# Altium footprint library CQFP_Sq_63P_Side_L.PcbLib: 12 footprints
Each footprint in its own frame and in the unit in brackets; x right, y up, seen from the top. Pads: shape width x height; smd on the part's side, far side on the other; paste and mask are expansions set on the pad; w line width, h text height; cw(c..) or ccw(c..) is an arc to the next point about the centre after c.
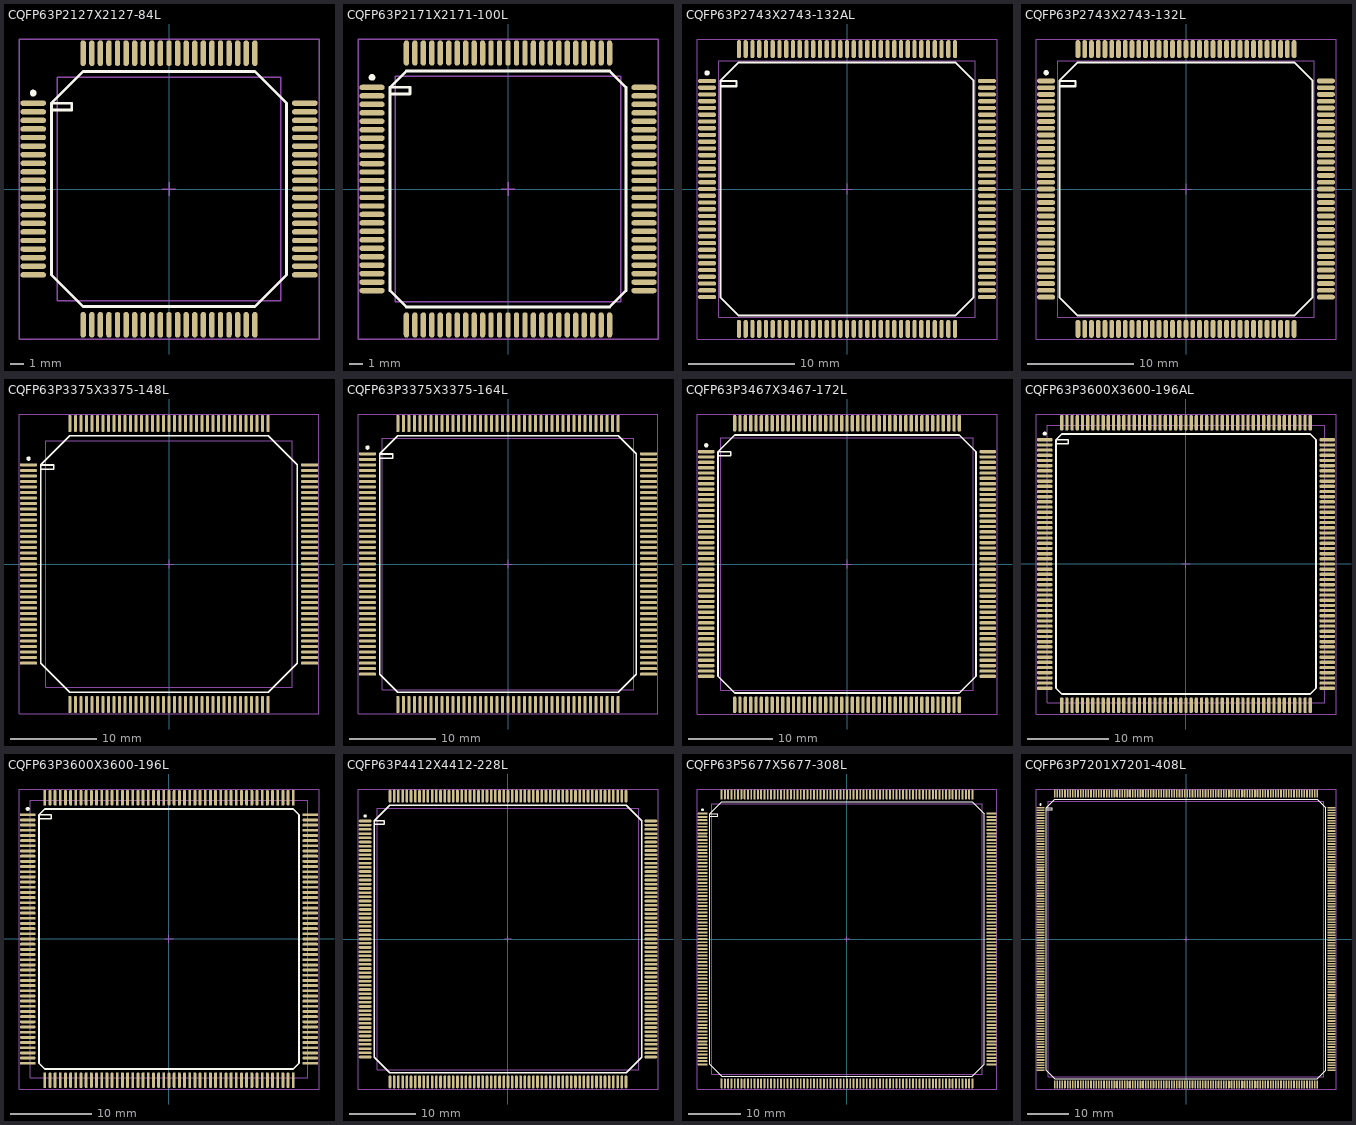
[diagram p0: the footprints below, top view; thin cyan lines are the x and y axes]

## CQFP63P2127X2127-84L [mm] "CQFP, 84-Leads, Body 16.5x16.5mm; Pitch 0.635mm, Gullwing Leadform, IPC High Density"
height 2.4
pads (84):
  oval 1.9x0.4 smd: 1(-10.05,6.35) 2(-10.05,5.715) 3(-10.05,5.08) 4(-10.05,4.445) 5(-10.05,3.81) 6(-10.05,3.175) 7(-10.05,2.54) 8(-10.05,1.905) 9(-10.05,1.27) 10(-10.05,0.635) 11(-10.05,0) 12(-10.05,-0.635) 13(-10.05,-1.27) 14(-10.05,-1.905) 15(-10.05,-2.54) 16(-10.05,-3.175) 17(-10.05,-3.81) 18(-10.05,-4.445) 19(-10.05,-5.08) 20(-10.05,-5.715) 21(-10.05,-6.35) 43(10.05,-6.35) 44(10.05,-5.715) 45(10.05,-5.08) 46(10.05,-4.445) 47(10.05,-3.81) 48(10.05,-3.175) 49(10.05,-2.54) 50(10.05,-1.905) 51(10.05,-1.27) 52(10.05,-0.635) 53(10.05,0) 54(10.05,0.635) 55(10.05,1.27) 56(10.05,1.905) 57(10.05,2.54) 58(10.05,3.175) 59(10.05,3.81) 60(10.05,4.445) 61(10.05,5.08) 62(10.05,5.715) 63(10.05,6.35)
  oval 0.4x1.9 smd: 22(-6.35,-10.05) 23(-5.715,-10.05) 24(-5.08,-10.05) 25(-4.445,-10.05) 26(-3.81,-10.05) 27(-3.175,-10.05) 28(-2.54,-10.05) 29(-1.905,-10.05) 30(-1.27,-10.05) 31(-0.635,-10.05) 32(0,-10.05) 33(0.635,-10.05) 34(1.27,-10.05) 35(1.905,-10.05) 36(2.54,-10.05) 37(3.175,-10.05) 38(3.81,-10.05) 39(4.445,-10.05) 40(5.08,-10.05) 41(5.715,-10.05) 42(6.35,-10.05) 64(6.35,10.05) 65(5.715,10.05) 66(5.08,10.05) 67(4.445,10.05) 68(3.81,10.05) 69(3.175,10.05) 70(2.54,10.05) 71(1.905,10.05) 72(1.27,10.05) 73(0.635,10.05) 74(0,10.05) 75(-0.635,10.05) 76(-1.27,10.05) 77(-1.905,10.05) 78(-2.54,10.05) 79(-3.175,10.05) 80(-3.81,10.05) 81(-4.445,10.05) 82(-5.08,10.05) 83(-5.715,10.05) 84(-6.35,10.05)
Top Overlay:
  circle w0.25: c-10.05,7.1 r0.125
  lines w0.2: -8.7,5.85 -7.2,5.85 -7.2,6.35 -8.7,6.35 ; -8.7,6.35 -6.35,8.7 6.35,8.7 8.7,6.35 8.7,-6.35 6.35,-8.7 -6.35,-8.7 -8.7,-6.35 -8.7,6.35
Mechanical 13:
  lines w0.1: -8.255,-8.255 8.255,-8.255 8.255,8.255 -8.255,8.255 -8.255,-8.255
Mechanical 15:
  lines w0.1: -0.5,0 0.5,0 ; 0,-0.5 0,0.5 ; -11.1,-11.1 11.1,-11.1 11.1,11.1 -11.1,11.1 -11.1,-11.1
3D body: height 2.4, standoff 0, extent -8.255,-8.255 8.255,8.255

## CQFP63P2171X2171-100L [mm] "100-Pin Ceramic Quad Flat Pack 0.635 mm Pitch"
height 3.2
pads (100):
  oval 1.9x0.4 smd: 1(-10.2,7.62) 2(-10.2,6.985) 3(-10.2,6.35) 4(-10.2,5.715) 5(-10.2,5.08) 6(-10.2,4.445) 7(-10.2,3.81) 8(-10.2,3.175) 9(-10.2,2.54) 10(-10.2,1.905) 11(-10.2,1.27) 12(-10.2,0.635) 13(-10.2,0) 14(-10.2,-0.635) 15(-10.2,-1.27) 16(-10.2,-1.905) 17(-10.2,-2.54) 18(-10.2,-3.175) 19(-10.2,-3.81) 20(-10.2,-4.445) 21(-10.2,-5.08) 22(-10.2,-5.715) 23(-10.2,-6.35) 24(-10.2,-6.985) 25(-10.2,-7.62) 51(10.2,-7.62) 52(10.2,-6.985) 53(10.2,-6.35) 54(10.2,-5.715) 55(10.2,-5.08) 56(10.2,-4.445) 57(10.2,-3.81) 58(10.2,-3.175) 59(10.2,-2.54) 60(10.2,-1.905) 61(10.2,-1.27) 62(10.2,-0.635) 63(10.2,0) 64(10.2,0.635) 65(10.2,1.27) 66(10.2,1.905) 67(10.2,2.54) 68(10.2,3.175) 69(10.2,3.81) 70(10.2,4.445) 71(10.2,5.08) 72(10.2,5.715) 73(10.2,6.35) 74(10.2,6.985) 75(10.2,7.62)
  oval 0.4x1.9 smd: 26(-7.62,-10.2) 27(-6.985,-10.2) 28(-6.35,-10.2) 29(-5.715,-10.2) 30(-5.08,-10.2) 31(-4.445,-10.2) 32(-3.81,-10.2) 33(-3.175,-10.2) 34(-2.54,-10.2) 35(-1.905,-10.2) 36(-1.27,-10.2) 37(-0.635,-10.2) 38(0,-10.2) 39(0.635,-10.2) 40(1.27,-10.2) 41(1.905,-10.2) 42(2.54,-10.2) 43(3.175,-10.2) 44(3.81,-10.2) 45(4.445,-10.2) 46(5.08,-10.2) 47(5.715,-10.2) 48(6.35,-10.2) 49(6.985,-10.2) 50(7.62,-10.2) 76(7.62,10.2) 77(6.985,10.2) 78(6.35,10.2) 79(5.715,10.2) 80(5.08,10.2) 81(4.445,10.2) 82(3.81,10.2) 83(3.175,10.2) 84(2.54,10.2) 85(1.905,10.2) 86(1.27,10.2) 87(0.635,10.2) 88(0,10.2) 89(-0.635,10.2) 90(-1.27,10.2) 91(-1.905,10.2) 92(-2.54,10.2) 93(-3.175,10.2) 94(-3.81,10.2) 95(-4.445,10.2) 96(-5.08,10.2) 97(-5.715,10.2) 98(-6.35,10.2) 99(-6.985,10.2) 100(-7.62,10.2)
Top Overlay:
  circle w0.25: c-10.2,8.37 r0.125
  lines w0.2: -8.85,7.12 -7.35,7.12 -7.35,7.62 -8.85,7.62 ; -8.85,7.62 -7.62,8.85 7.62,8.85 8.85,7.62 8.85,-7.62 7.62,-8.85 -7.62,-8.85 -8.85,-7.62 -8.85,7.62
Mechanical 13:
  lines w0.1: -8.475,-8.475 8.475,-8.475 8.475,8.475 -8.475,8.475 -8.475,-8.475
Mechanical 15:
  lines w0.1: -0.5,0 0.5,0 ; 0,-0.5 0,0.5 ; -11.25,-11.25 11.25,-11.25 11.25,11.25 -11.25,11.25 -11.25,-11.25
3D body: height 3.2, standoff 0, extent -8.475,-8.475 8.475,8.475

## CQFP63P2743X2743-132AL [mm] "CQFP, 132-Leads, Body 24x24mm; Pitch 0.635mm, Gullwing Leadform, IPC High Density"
height 3
pads (132):
  oval 1.7x0.4 smd: 1(-13.15,10.16) 2(-13.15,9.525) 3(-13.15,8.89) 4(-13.15,8.255) 5(-13.15,7.62) 6(-13.15,6.985) 7(-13.15,6.35) 8(-13.15,5.715) 9(-13.15,5.08) 10(-13.15,4.445) 11(-13.15,3.81) 12(-13.15,3.175) 13(-13.15,2.54) 14(-13.15,1.905) 15(-13.15,1.27) 16(-13.15,0.635) 17(-13.15,0) 18(-13.15,-0.635) 19(-13.15,-1.27) 20(-13.15,-1.905) 21(-13.15,-2.54) 22(-13.15,-3.175) 23(-13.15,-3.81) 24(-13.15,-4.445) 25(-13.15,-5.08) 26(-13.15,-5.715) 27(-13.15,-6.35) 28(-13.15,-6.985) 29(-13.15,-7.62) 30(-13.15,-8.255) 31(-13.15,-8.89) 32(-13.15,-9.525) 33(-13.15,-10.16) 67(13.15,-10.16) 68(13.15,-9.525) 69(13.15,-8.89) 70(13.15,-8.255) 71(13.15,-7.62) 72(13.15,-6.985) 73(13.15,-6.35) 74(13.15,-5.715) 75(13.15,-5.08) 76(13.15,-4.445) 77(13.15,-3.81) 78(13.15,-3.175) 79(13.15,-2.54) 80(13.15,-1.905) 81(13.15,-1.27) 82(13.15,-0.635) 83(13.15,0) 84(13.15,0.635) 85(13.15,1.27) 86(13.15,1.905) 87(13.15,2.54) 88(13.15,3.175) 89(13.15,3.81) 90(13.15,4.445) 91(13.15,5.08) 92(13.15,5.715) 93(13.15,6.35) 94(13.15,6.985) 95(13.15,7.62) 96(13.15,8.255) 97(13.15,8.89) 98(13.15,9.525) 99(13.15,10.16)
  oval 0.4x1.7 smd: 34(-10.16,-13.15) 35(-9.525,-13.15) 36(-8.89,-13.15) 37(-8.255,-13.15) 38(-7.62,-13.15) 39(-6.985,-13.15) 40(-6.35,-13.15) 41(-5.715,-13.15) 42(-5.08,-13.15) 43(-4.445,-13.15) 44(-3.81,-13.15) 45(-3.175,-13.15) 46(-2.54,-13.15) 47(-1.905,-13.15) 48(-1.27,-13.15) 49(-0.635,-13.15) 50(0,-13.15) 51(0.635,-13.15) 52(1.27,-13.15) 53(1.905,-13.15) 54(2.54,-13.15) 55(3.175,-13.15) 56(3.81,-13.15) 57(4.445,-13.15) 58(5.08,-13.15) 59(5.715,-13.15) 60(6.35,-13.15) 61(6.985,-13.15) 62(7.62,-13.15) 63(8.255,-13.15) 64(8.89,-13.15) 65(9.525,-13.15) 66(10.16,-13.15) 100(10.16,13.15) 101(9.525,13.15) 102(8.89,13.15) 103(8.255,13.15) 104(7.62,13.15) 105(6.985,13.15) 106(6.35,13.15) 107(5.715,13.15) 108(5.08,13.15) 109(4.445,13.15) 110(3.81,13.15) 111(3.175,13.15) 112(2.54,13.15) 113(1.905,13.15) 114(1.27,13.15) 115(0.635,13.15) 116(0,13.15) 117(-0.635,13.15) 118(-1.27,13.15) 119(-1.905,13.15) 120(-2.54,13.15) 121(-3.175,13.15) 122(-3.81,13.15) 123(-4.445,13.15) 124(-5.08,13.15) 125(-5.715,13.15) 126(-6.35,13.15) 127(-6.985,13.15) 128(-7.62,13.15) 129(-8.255,13.15) 130(-8.89,13.15) 131(-9.525,13.15) 132(-10.16,13.15)
Top Overlay:
  circle w0.25: c-13.15,10.91 r0.125
  lines w0.2: -11.9,9.66 -10.4,9.66 -10.4,10.16 -11.9,10.16 ; -11.9,10.16 -10.16,11.9 10.16,11.9 11.9,10.16 11.9,-10.16 10.16,-11.9 -10.16,-11.9 -11.9,-10.16 -11.9,10.16
Mechanical 13:
  lines w0.1: -12.035,-12.035 12.035,-12.035 12.035,12.035 -12.035,12.035 -12.035,-12.035
Mechanical 15:
  lines w0.1: -0.5,0 0.5,0 ; 0,-0.5 0,0.5 ; -14.1,-14.1 14.1,-14.1 14.1,14.1 -14.1,14.1 -14.1,-14.1
3D body: height 3, standoff 0, extent -12.035,-12.035 12.035,12.035

## CQFP63P2743X2743-132L [mm] "CQFP, 132-Leads, Body 24x24mm; Pitch 0.635mm, Gullwing Leadform, IPC High Density"
height 3.6
pads (132):
  oval 1.7x0.45 smd: 1(-13.15,10.16) 2(-13.15,9.525) 3(-13.15,8.89) 4(-13.15,8.255) 5(-13.15,7.62) 6(-13.15,6.985) 7(-13.15,6.35) 8(-13.15,5.715) 9(-13.15,5.08) 10(-13.15,4.445) 11(-13.15,3.81) 12(-13.15,3.175) 13(-13.15,2.54) 14(-13.15,1.905) 15(-13.15,1.27) 16(-13.15,0.635) 17(-13.15,0) 18(-13.15,-0.635) 19(-13.15,-1.27) 20(-13.15,-1.905) 21(-13.15,-2.54) 22(-13.15,-3.175) 23(-13.15,-3.81) 24(-13.15,-4.445) 25(-13.15,-5.08) 26(-13.15,-5.715) 27(-13.15,-6.35) 28(-13.15,-6.985) 29(-13.15,-7.62) 30(-13.15,-8.255) 31(-13.15,-8.89) 32(-13.15,-9.525) 33(-13.15,-10.16) 67(13.15,-10.16) 68(13.15,-9.525) 69(13.15,-8.89) 70(13.15,-8.255) 71(13.15,-7.62) 72(13.15,-6.985) 73(13.15,-6.35) 74(13.15,-5.715) 75(13.15,-5.08) 76(13.15,-4.445) 77(13.15,-3.81) 78(13.15,-3.175) 79(13.15,-2.54) 80(13.15,-1.905) 81(13.15,-1.27) 82(13.15,-0.635) 83(13.15,0) 84(13.15,0.635) 85(13.15,1.27) 86(13.15,1.905) 87(13.15,2.54) 88(13.15,3.175) 89(13.15,3.81) 90(13.15,4.445) 91(13.15,5.08) 92(13.15,5.715) 93(13.15,6.35) 94(13.15,6.985) 95(13.15,7.62) 96(13.15,8.255) 97(13.15,8.89) 98(13.15,9.525) 99(13.15,10.16)
  oval 0.45x1.7 smd: 34(-10.16,-13.15) 35(-9.525,-13.15) 36(-8.89,-13.15) 37(-8.255,-13.15) 38(-7.62,-13.15) 39(-6.985,-13.15) 40(-6.35,-13.15) 41(-5.715,-13.15) 42(-5.08,-13.15) 43(-4.445,-13.15) 44(-3.81,-13.15) 45(-3.175,-13.15) 46(-2.54,-13.15) 47(-1.905,-13.15) 48(-1.27,-13.15) 49(-0.635,-13.15) 50(0,-13.15) 51(0.635,-13.15) 52(1.27,-13.15) 53(1.905,-13.15) 54(2.54,-13.15) 55(3.175,-13.15) 56(3.81,-13.15) 57(4.445,-13.15) 58(5.08,-13.15) 59(5.715,-13.15) 60(6.35,-13.15) 61(6.985,-13.15) 62(7.62,-13.15) 63(8.255,-13.15) 64(8.89,-13.15) 65(9.525,-13.15) 66(10.16,-13.15) 100(10.16,13.15) 101(9.525,13.15) 102(8.89,13.15) 103(8.255,13.15) 104(7.62,13.15) 105(6.985,13.15) 106(6.35,13.15) 107(5.715,13.15) 108(5.08,13.15) 109(4.445,13.15) 110(3.81,13.15) 111(3.175,13.15) 112(2.54,13.15) 113(1.905,13.15) 114(1.27,13.15) 115(0.635,13.15) 116(0,13.15) 117(-0.635,13.15) 118(-1.27,13.15) 119(-1.905,13.15) 120(-2.54,13.15) 121(-3.175,13.15) 122(-3.81,13.15) 123(-4.445,13.15) 124(-5.08,13.15) 125(-5.715,13.15) 126(-6.35,13.15) 127(-6.985,13.15) 128(-7.62,13.15) 129(-8.255,13.15) 130(-8.89,13.15) 131(-9.525,13.15) 132(-10.16,13.15)
Top Overlay:
  circle w0.25: c-13.15,10.935 r0.125
  lines w0.2: -11.9,9.66 -10.4,9.66 -10.4,10.16 -11.9,10.16 ; -11.9,10.16 -10.16,11.9 10.16,11.9 11.9,10.16 11.9,-10.16 10.16,-11.9 -10.16,-11.9 -11.9,-10.16 -11.9,10.16
Mechanical 13:
  lines w0.1: -12.035,-12.035 12.035,-12.035 12.035,12.035 -12.035,12.035 -12.035,-12.035
Mechanical 15:
  lines w0.1: -0.5,0 0.5,0 ; 0,-0.5 0,0.5 ; -14.1,-14.1 14.1,-14.1 14.1,14.1 -14.1,14.1 -14.1,-14.1
3D body: height 3.6, standoff 0, extent -12.035,-12.035 12.035,12.035

## CQFP63P3375X3375-148L [mm] "CQFP, 148-Leads, Body 28.5x28.5mm; Pitch 0.635mm, Gullwing Leadform, IPC High Density"
height 3.1
pads (148):
  oval 2x0.35 smd: 1(-16.2,11.43) 2(-16.2,10.795) 3(-16.2,10.16) 4(-16.2,9.525) 5(-16.2,8.89) 6(-16.2,8.255) 7(-16.2,7.62) 8(-16.2,6.985) 9(-16.2,6.35) 10(-16.2,5.715) 11(-16.2,5.08) 12(-16.2,4.445) 13(-16.2,3.81) 14(-16.2,3.175) 15(-16.2,2.54) 16(-16.2,1.905) 17(-16.2,1.27) 18(-16.2,0.635) 19(-16.2,0) 20(-16.2,-0.635) 21(-16.2,-1.27) 22(-16.2,-1.905) 23(-16.2,-2.54) 24(-16.2,-3.175) 25(-16.2,-3.81) 26(-16.2,-4.445) 27(-16.2,-5.08) 28(-16.2,-5.715) 29(-16.2,-6.35) 30(-16.2,-6.985) 31(-16.2,-7.62) 32(-16.2,-8.255) 33(-16.2,-8.89) 34(-16.2,-9.525) 35(-16.2,-10.16) 36(-16.2,-10.795) 37(-16.2,-11.43) 75(16.2,-11.43) 76(16.2,-10.795) 77(16.2,-10.16) 78(16.2,-9.525) 79(16.2,-8.89) 80(16.2,-8.255) 81(16.2,-7.62) 82(16.2,-6.985) 83(16.2,-6.35) 84(16.2,-5.715) 85(16.2,-5.08) 86(16.2,-4.445) 87(16.2,-3.81) 88(16.2,-3.175) 89(16.2,-2.54) 90(16.2,-1.905) 91(16.2,-1.27) 92(16.2,-0.635) 93(16.2,0) 94(16.2,0.635) 95(16.2,1.27) 96(16.2,1.905) 97(16.2,2.54) 98(16.2,3.175) 99(16.2,3.81) 100(16.2,4.445) 101(16.2,5.08) 102(16.2,5.715) 103(16.2,6.35) 104(16.2,6.985) 105(16.2,7.62) 106(16.2,8.255) 107(16.2,8.89) 108(16.2,9.525) 109(16.2,10.16) 110(16.2,10.795) 111(16.2,11.43)
  oval 0.35x2 smd: 38(-11.43,-16.2) 39(-10.795,-16.2) 40(-10.16,-16.2) 41(-9.525,-16.2) 42(-8.89,-16.2) 43(-8.255,-16.2) 44(-7.62,-16.2) 45(-6.985,-16.2) 46(-6.35,-16.2) 47(-5.715,-16.2) 48(-5.08,-16.2) 49(-4.445,-16.2) 50(-3.81,-16.2) 51(-3.175,-16.2) 52(-2.54,-16.2) 53(-1.905,-16.2) 54(-1.27,-16.2) 55(-0.635,-16.2) 56(0,-16.2) 57(0.635,-16.2) 58(1.27,-16.2) 59(1.905,-16.2) 60(2.54,-16.2) 61(3.175,-16.2) 62(3.81,-16.2) 63(4.445,-16.2) 64(5.08,-16.2) 65(5.715,-16.2) 66(6.35,-16.2) 67(6.985,-16.2) 68(7.62,-16.2) 69(8.255,-16.2) 70(8.89,-16.2) 71(9.525,-16.2) 72(10.16,-16.2) 73(10.795,-16.2) 74(11.43,-16.2) 112(11.43,16.2) 113(10.795,16.2) 114(10.16,16.2) 115(9.525,16.2) 116(8.89,16.2) 117(8.255,16.2) 118(7.62,16.2) 119(6.985,16.2) 120(6.35,16.2) 121(5.715,16.2) 122(5.08,16.2) 123(4.445,16.2) 124(3.81,16.2) 125(3.175,16.2) 126(2.54,16.2) 127(1.905,16.2) 128(1.27,16.2) 129(0.635,16.2) 130(0,16.2) 131(-0.635,16.2) 132(-1.27,16.2) 133(-1.905,16.2) 134(-2.54,16.2) 135(-3.175,16.2) 136(-3.81,16.2) 137(-4.445,16.2) 138(-5.08,16.2) 139(-5.715,16.2) 140(-6.35,16.2) 141(-6.985,16.2) 142(-7.62,16.2) 143(-8.255,16.2) 144(-8.89,16.2) 145(-9.525,16.2) 146(-10.16,16.2) 147(-10.795,16.2) 148(-11.43,16.2)
Top Overlay:
  circle w0.25: c-16.2,12.155 r0.125
  lines w0.2: -14.8,10.93 -13.3,10.93 -13.3,11.43 -14.8,11.43 ; -14.8,11.43 -11.43,14.8 11.43,14.8 14.8,11.43 14.8,-11.43 11.43,-14.8 -11.43,-14.8 -14.8,-11.43 -14.8,11.43
Mechanical 13:
  lines w0.1: -14.23,-14.23 14.23,-14.23 14.23,14.23 -14.23,14.23 -14.23,-14.23
Mechanical 15:
  lines w0.1: -0.5,0 0.5,0 ; 0,-0.5 0,0.5 ; -17.3,-17.3 17.3,-17.3 17.3,17.3 -17.3,17.3 -17.3,-17.3
3D body: height 3.1, standoff 0, extent -14.23,-14.23 14.23,14.23

## CQFP63P3375X3375-164L [mm] "CQFP, 164-Leads, Body 29x29mm; Pitch 0.635mm, Gullwing Leadform, IPC High Density"
height 3.4
pads (164):
  oval 2x0.35 smd: 1(-16.2,12.7) 2(-16.2,12.065) 3(-16.2,11.43) 4(-16.2,10.795) 5(-16.2,10.16) 6(-16.2,9.525) 7(-16.2,8.89) 8(-16.2,8.255) 9(-16.2,7.62) 10(-16.2,6.985) 11(-16.2,6.35) 12(-16.2,5.715) 13(-16.2,5.08) 14(-16.2,4.445) 15(-16.2,3.81) 16(-16.2,3.175) 17(-16.2,2.54) 18(-16.2,1.905) 19(-16.2,1.27) 20(-16.2,0.635) 21(-16.2,0) 22(-16.2,-0.635) 23(-16.2,-1.27) 24(-16.2,-1.905) 25(-16.2,-2.54) 26(-16.2,-3.175) 27(-16.2,-3.81) 28(-16.2,-4.445) 29(-16.2,-5.08) 30(-16.2,-5.715) 31(-16.2,-6.35) 32(-16.2,-6.985) 33(-16.2,-7.62) 34(-16.2,-8.255) 35(-16.2,-8.89) 36(-16.2,-9.525) 37(-16.2,-10.16) 38(-16.2,-10.795) 39(-16.2,-11.43) 40(-16.2,-12.065) 41(-16.2,-12.7) 83(16.2,-12.7) 84(16.2,-12.065) 85(16.2,-11.43) 86(16.2,-10.795) 87(16.2,-10.16) 88(16.2,-9.525) 89(16.2,-8.89) 90(16.2,-8.255) 91(16.2,-7.62) 92(16.2,-6.985) 93(16.2,-6.35) 94(16.2,-5.715) 95(16.2,-5.08) 96(16.2,-4.445) 97(16.2,-3.81) 98(16.2,-3.175) 99(16.2,-2.54) 100(16.2,-1.905) 101(16.2,-1.27) 102(16.2,-0.635) 103(16.2,0) 104(16.2,0.635) 105(16.2,1.27) 106(16.2,1.905) 107(16.2,2.54) 108(16.2,3.175) 109(16.2,3.81) 110(16.2,4.445) 111(16.2,5.08) 112(16.2,5.715) 113(16.2,6.35) 114(16.2,6.985) 115(16.2,7.62) 116(16.2,8.255) 117(16.2,8.89) 118(16.2,9.525) 119(16.2,10.16) 120(16.2,10.795) 121(16.2,11.43) 122(16.2,12.065) 123(16.2,12.7)
  oval 0.35x2 smd: 42(-12.7,-16.2) 43(-12.065,-16.2) 44(-11.43,-16.2) 45(-10.795,-16.2) 46(-10.16,-16.2) 47(-9.525,-16.2) 48(-8.89,-16.2) 49(-8.255,-16.2) 50(-7.62,-16.2) 51(-6.985,-16.2) 52(-6.35,-16.2) 53(-5.715,-16.2) 54(-5.08,-16.2) 55(-4.445,-16.2) 56(-3.81,-16.2) 57(-3.175,-16.2) 58(-2.54,-16.2) 59(-1.905,-16.2) 60(-1.27,-16.2) 61(-0.635,-16.2) 62(0,-16.2) 63(0.635,-16.2) 64(1.27,-16.2) 65(1.905,-16.2) 66(2.54,-16.2) 67(3.175,-16.2) 68(3.81,-16.2) 69(4.445,-16.2) 70(5.08,-16.2) 71(5.715,-16.2) 72(6.35,-16.2) 73(6.985,-16.2) 74(7.62,-16.2) 75(8.255,-16.2) 76(8.89,-16.2) 77(9.525,-16.2) 78(10.16,-16.2) 79(10.795,-16.2) 80(11.43,-16.2) 81(12.065,-16.2) 82(12.7,-16.2) 124(12.7,16.2) 125(12.065,16.2) 126(11.43,16.2) 127(10.795,16.2) 128(10.16,16.2) 129(9.525,16.2) 130(8.89,16.2) 131(8.255,16.2) 132(7.62,16.2) 133(6.985,16.2) 134(6.35,16.2) 135(5.715,16.2) 136(5.08,16.2) 137(4.445,16.2) 138(3.81,16.2) 139(3.175,16.2) 140(2.54,16.2) 141(1.905,16.2) 142(1.27,16.2) 143(0.635,16.2) 144(0,16.2) 145(-0.635,16.2) 146(-1.27,16.2) 147(-1.905,16.2) 148(-2.54,16.2) 149(-3.175,16.2) 150(-3.81,16.2) 151(-4.445,16.2) 152(-5.08,16.2) 153(-5.715,16.2) 154(-6.35,16.2) 155(-6.985,16.2) 156(-7.62,16.2) 157(-8.255,16.2) 158(-8.89,16.2) 159(-9.525,16.2) 160(-10.16,16.2) 161(-10.795,16.2) 162(-11.43,16.2) 163(-12.065,16.2) 164(-12.7,16.2)
Top Overlay:
  circle w0.25: c-16.2,13.425 r0.125
  lines w0.2: -14.8,12.2 -13.3,12.2 -13.3,12.7 -14.8,12.7 ; -14.8,12.7 -12.7,14.8 12.7,14.8 14.8,12.7 14.8,-12.7 12.7,-14.8 -12.7,-14.8 -14.8,-12.7 -14.8,12.7
Mechanical 13:
  lines w0.1: -14.525,-14.525 14.525,-14.525 14.525,14.525 -14.525,14.525 -14.525,-14.525
Mechanical 15:
  lines w0.1: -0.5,0 0.5,0 ; 0,-0.5 0,0.5 ; -17.3,-17.3 17.3,-17.3 17.3,17.3 -17.3,17.3 -17.3,-17.3
3D body: height 3.4, standoff 0, extent -14.525,-14.525 14.525,14.525

## CQFP63P3467X3467-172L [mm] "CQFP, 172-Leads, Body 30x30mm; Pitch 0.635mm, Gullwing Leadform, IPC High Density"
height 3
pads (172):
  oval 2x0.4 smd: 1(-16.7,13.335) 2(-16.7,12.7) 3(-16.7,12.065) 4(-16.7,11.43) 5(-16.7,10.795) 6(-16.7,10.16) 7(-16.7,9.525) 8(-16.7,8.89) 9(-16.7,8.255) 10(-16.7,7.62) 11(-16.7,6.985) 12(-16.7,6.35) 13(-16.7,5.715) 14(-16.7,5.08) 15(-16.7,4.445) 16(-16.7,3.81) 17(-16.7,3.175) 18(-16.7,2.54) 19(-16.7,1.905) 20(-16.7,1.27) 21(-16.7,0.635) 22(-16.7,0) 23(-16.7,-0.635) 24(-16.7,-1.27) 25(-16.7,-1.905) 26(-16.7,-2.54) 27(-16.7,-3.175) 28(-16.7,-3.81) 29(-16.7,-4.445) 30(-16.7,-5.08) 31(-16.7,-5.715) 32(-16.7,-6.35) 33(-16.7,-6.985) 34(-16.7,-7.62) 35(-16.7,-8.255) 36(-16.7,-8.89) 37(-16.7,-9.525) 38(-16.7,-10.16) 39(-16.7,-10.795) 40(-16.7,-11.43) 41(-16.7,-12.065) 42(-16.7,-12.7) 43(-16.7,-13.335) 87(16.7,-13.335) 88(16.7,-12.7) 89(16.7,-12.065) 90(16.7,-11.43) 91(16.7,-10.795) 92(16.7,-10.16) 93(16.7,-9.525) 94(16.7,-8.89) 95(16.7,-8.255) 96(16.7,-7.62) 97(16.7,-6.985) 98(16.7,-6.35) 99(16.7,-5.715) 100(16.7,-5.08) 101(16.7,-4.445) 102(16.7,-3.81) 103(16.7,-3.175) 104(16.7,-2.54) 105(16.7,-1.905) 106(16.7,-1.27) 107(16.7,-0.635) 108(16.7,0) 109(16.7,0.635) 110(16.7,1.27) 111(16.7,1.905) 112(16.7,2.54) 113(16.7,3.175) 114(16.7,3.81) 115(16.7,4.445) 116(16.7,5.08) 117(16.7,5.715) 118(16.7,6.35) 119(16.7,6.985) 120(16.7,7.62) 121(16.7,8.255) 122(16.7,8.89) 123(16.7,9.525) 124(16.7,10.16) 125(16.7,10.795) 126(16.7,11.43) 127(16.7,12.065) 128(16.7,12.7) 129(16.7,13.335)
  oval 0.4x2 smd: 44(-13.335,-16.7) 45(-12.7,-16.7) 46(-12.065,-16.7) 47(-11.43,-16.7) 48(-10.795,-16.7) 49(-10.16,-16.7) 50(-9.525,-16.7) 51(-8.89,-16.7) 52(-8.255,-16.7) 53(-7.62,-16.7) 54(-6.985,-16.7) 55(-6.35,-16.7) 56(-5.715,-16.7) 57(-5.08,-16.7) 58(-4.445,-16.7) 59(-3.81,-16.7) 60(-3.175,-16.7) 61(-2.54,-16.7) 62(-1.905,-16.7) 63(-1.27,-16.7) 64(-0.635,-16.7) 65(0,-16.7) 66(0.635,-16.7) 67(1.27,-16.7) 68(1.905,-16.7) 69(2.54,-16.7) 70(3.175,-16.7) 71(3.81,-16.7) 72(4.445,-16.7) 73(5.08,-16.7) 74(5.715,-16.7) 75(6.35,-16.7) 76(6.985,-16.7) 77(7.62,-16.7) 78(8.255,-16.7) 79(8.89,-16.7) 80(9.525,-16.7) 81(10.16,-16.7) 82(10.795,-16.7) 83(11.43,-16.7) 84(12.065,-16.7) 85(12.7,-16.7) 86(13.335,-16.7) 130(13.335,16.7) 131(12.7,16.7) 132(12.065,16.7) 133(11.43,16.7) 134(10.795,16.7) 135(10.16,16.7) 136(9.525,16.7) 137(8.89,16.7) 138(8.255,16.7) 139(7.62,16.7) 140(6.985,16.7) 141(6.35,16.7) 142(5.715,16.7) 143(5.08,16.7) 144(4.445,16.7) 145(3.81,16.7) 146(3.175,16.7) 147(2.54,16.7) 148(1.905,16.7) 149(1.27,16.7) 150(0.635,16.7) 151(0,16.7) 152(-0.635,16.7) 153(-1.27,16.7) 154(-1.905,16.7) 155(-2.54,16.7) 156(-3.175,16.7) 157(-3.81,16.7) 158(-4.445,16.7) 159(-5.08,16.7) 160(-5.715,16.7) 161(-6.35,16.7) 162(-6.985,16.7) 163(-7.62,16.7) 164(-8.255,16.7) 165(-8.89,16.7) 166(-9.525,16.7) 167(-10.16,16.7) 168(-10.795,16.7) 169(-11.43,16.7) 170(-12.065,16.7) 171(-12.7,16.7) 172(-13.335,16.7)
Top Overlay:
  circle w0.25: c-16.7,14.085 r0.125
  lines w0.2: -15.3,12.835 -13.8,12.835 -13.8,13.335 -15.3,13.335 ; -15.3,13.335 -13.335,15.3 13.335,15.3 15.3,13.335 15.3,-13.335 13.335,-15.3 -13.335,-15.3 -15.3,-13.335 -15.3,13.335
Mechanical 13:
  lines w0.1: -14.985,-14.985 14.985,-14.985 14.985,14.985 -14.985,14.985 -14.985,-14.985
Mechanical 15:
  lines w0.1: -0.5,0 0.5,0 ; 0,-0.5 0,0.5 ; -17.8,-17.8 17.8,-17.8 17.8,17.8 -17.8,17.8 -17.8,-17.8
3D body: height 3, standoff 0, extent -14.985,-14.985 14.985,14.985

## CQFP63P3600X3600-196AL [mm] "196-Pin Ceramic Quad Flat Pack 0.635 mm Pitch"
height 2.7
pads (196):
  oval 1.95x0.4 smd: 1(-17.325,15.24) 2(-17.325,14.605) 3(-17.325,13.97) 4(-17.325,13.335) 5(-17.325,12.7) 6(-17.325,12.065) 7(-17.325,11.43) 8(-17.325,10.795) 9(-17.325,10.16) 10(-17.325,9.525) 11(-17.325,8.89) 12(-17.325,8.255) 13(-17.325,7.62) 14(-17.325,6.985) 15(-17.325,6.35) 16(-17.325,5.715) 17(-17.325,5.08) 18(-17.325,4.445) 19(-17.325,3.81) 20(-17.325,3.175) 21(-17.325,2.54) 22(-17.325,1.905) 23(-17.325,1.27) 24(-17.325,0.635) 25(-17.325,0) 26(-17.325,-0.635) 27(-17.325,-1.27) 28(-17.325,-1.905) 29(-17.325,-2.54) 30(-17.325,-3.175) 31(-17.325,-3.81) 32(-17.325,-4.445) 33(-17.325,-5.08) 34(-17.325,-5.715) 35(-17.325,-6.35) 36(-17.325,-6.985) 37(-17.325,-7.62) 38(-17.325,-8.255) 39(-17.325,-8.89) 40(-17.325,-9.525) 41(-17.325,-10.16) 42(-17.325,-10.795) 43(-17.325,-11.43) 44(-17.325,-12.065) 45(-17.325,-12.7) 46(-17.325,-13.335) 47(-17.325,-13.97) 48(-17.325,-14.605) 49(-17.325,-15.24) 99(17.325,-15.24) 100(17.325,-14.605) 101(17.325,-13.97) 102(17.325,-13.335) 103(17.325,-12.7) 104(17.325,-12.065) 105(17.325,-11.43) 106(17.325,-10.795) 107(17.325,-10.16) 108(17.325,-9.525) 109(17.325,-8.89) 110(17.325,-8.255) 111(17.325,-7.62) 112(17.325,-6.985) 113(17.325,-6.35) 114(17.325,-5.715) 115(17.325,-5.08) 116(17.325,-4.445) 117(17.325,-3.81) 118(17.325,-3.175) 119(17.325,-2.54) 120(17.325,-1.905) 121(17.325,-1.27) 122(17.325,-0.635) 123(17.325,0) 124(17.325,0.635) 125(17.325,1.27) 126(17.325,1.905) 127(17.325,2.54) 128(17.325,3.175) 129(17.325,3.81) 130(17.325,4.445) 131(17.325,5.08) 132(17.325,5.715) 133(17.325,6.35) 134(17.325,6.985) 135(17.325,7.62) 136(17.325,8.255) 137(17.325,8.89) 138(17.325,9.525) 139(17.325,10.16) 140(17.325,10.795) 141(17.325,11.43) 142(17.325,12.065) 143(17.325,12.7) 144(17.325,13.335) 145(17.325,13.97) 146(17.325,14.605) 147(17.325,15.24)
  oval 0.4x1.95 smd: 50(-15.24,-17.325) 51(-14.605,-17.325) 52(-13.97,-17.325) 53(-13.335,-17.325) 54(-12.7,-17.325) 55(-12.065,-17.325) 56(-11.43,-17.325) 57(-10.795,-17.325) 58(-10.16,-17.325) 59(-9.525,-17.325) 60(-8.89,-17.325) 61(-8.255,-17.325) 62(-7.62,-17.325) 63(-6.985,-17.325) 64(-6.35,-17.325) 65(-5.715,-17.325) 66(-5.08,-17.325) 67(-4.445,-17.325) 68(-3.81,-17.325) 69(-3.175,-17.325) 70(-2.54,-17.325) 71(-1.905,-17.325) 72(-1.27,-17.325) 73(-0.635,-17.325) 74(0,-17.325) 75(0.635,-17.325) 76(1.27,-17.325) 77(1.905,-17.325) 78(2.54,-17.325) 79(3.175,-17.325) 80(3.81,-17.325) 81(4.445,-17.325) 82(5.08,-17.325) 83(5.715,-17.325) 84(6.35,-17.325) 85(6.985,-17.325) 86(7.62,-17.325) 87(8.255,-17.325) 88(8.89,-17.325) 89(9.525,-17.325) 90(10.16,-17.325) 91(10.795,-17.325) 92(11.43,-17.325) 93(12.065,-17.325) 94(12.7,-17.325) 95(13.335,-17.325) 96(13.97,-17.325) 97(14.605,-17.325) 98(15.24,-17.325) 148(15.24,17.325) 149(14.605,17.325) 150(13.97,17.325) 151(13.335,17.325) 152(12.7,17.325) 153(12.065,17.325) 154(11.43,17.325) 155(10.795,17.325) 156(10.16,17.325) 157(9.525,17.325) 158(8.89,17.325) 159(8.255,17.325) 160(7.62,17.325) 161(6.985,17.325) 162(6.35,17.325) 163(5.715,17.325) 164(5.08,17.325) 165(4.445,17.325) 166(3.81,17.325) 167(3.175,17.325) 168(2.54,17.325) 169(1.905,17.325) 170(1.27,17.325) 171(0.635,17.325) 172(0,17.325) 173(-0.635,17.325) 174(-1.27,17.325) 175(-1.905,17.325) 176(-2.54,17.325) 177(-3.175,17.325) 178(-3.81,17.325) 179(-4.445,17.325) 180(-5.08,17.325) 181(-5.715,17.325) 182(-6.35,17.325) 183(-6.985,17.325) 184(-7.62,17.325) 185(-8.255,17.325) 186(-8.89,17.325) 187(-9.525,17.325) 188(-10.16,17.325) 189(-10.795,17.325) 190(-11.43,17.325) 191(-12.065,17.325) 192(-12.7,17.325) 193(-13.335,17.325) 194(-13.97,17.325) 195(-14.605,17.325) 196(-15.24,17.325)
Top Overlay:
  circle w0.25: c-17.325,15.99 r0.125
  lines w0.2: -15.95,14.74 -14.45,14.74 -14.45,15.24 -15.95,15.24 ; -15.95,15.24 -15.24,15.95 15.24,15.95 15.95,15.24 15.95,-15.24 15.24,-15.95 -15.24,-15.95 -15.95,-15.24 -15.95,15.24
Mechanical 13:
  lines w0.1: -17.025,-17.025 17.025,-17.025 17.025,17.025 -17.025,17.025 -17.025,-17.025
Mechanical 15:
  lines w0.1: -0.5,0 0.5,0 ; 0,-0.5 0,0.5 ; -18.4,-18.4 18.4,-18.4 18.4,18.4 -18.4,18.4 -18.4,-18.4
3D body: height 2.7, standoff 0, extent -17.025,-17.025 17.025,17.025

## CQFP63P3600X3600-196L [mm] "CQFP, 196-Leads, Body 34x34mm; Pitch 0.635mm, Gullwing Leadform, IPC High Density"
height 2.7
pads (196):
  oval 1.95x0.35 smd: 1(-17.325,15.24) 2(-17.325,14.605) 3(-17.325,13.97) 4(-17.325,13.335) 5(-17.325,12.7) 6(-17.325,12.065) 7(-17.325,11.43) 8(-17.325,10.795) 9(-17.325,10.16) 10(-17.325,9.525) 11(-17.325,8.89) 12(-17.325,8.255) 13(-17.325,7.62) 14(-17.325,6.985) 15(-17.325,6.35) 16(-17.325,5.715) 17(-17.325,5.08) 18(-17.325,4.445) 19(-17.325,3.81) 20(-17.325,3.175) 21(-17.325,2.54) 22(-17.325,1.905) 23(-17.325,1.27) 24(-17.325,0.635) 25(-17.325,0) 26(-17.325,-0.635) 27(-17.325,-1.27) 28(-17.325,-1.905) 29(-17.325,-2.54) 30(-17.325,-3.175) 31(-17.325,-3.81) 32(-17.325,-4.445) 33(-17.325,-5.08) 34(-17.325,-5.715) 35(-17.325,-6.35) 36(-17.325,-6.985) 37(-17.325,-7.62) 38(-17.325,-8.255) 39(-17.325,-8.89) 40(-17.325,-9.525) 41(-17.325,-10.16) 42(-17.325,-10.795) 43(-17.325,-11.43) 44(-17.325,-12.065) 45(-17.325,-12.7) 46(-17.325,-13.335) 47(-17.325,-13.97) 48(-17.325,-14.605) 49(-17.325,-15.24) 99(17.325,-15.24) 100(17.325,-14.605) 101(17.325,-13.97) 102(17.325,-13.335) 103(17.325,-12.7) 104(17.325,-12.065) 105(17.325,-11.43) 106(17.325,-10.795) 107(17.325,-10.16) 108(17.325,-9.525) 109(17.325,-8.89) 110(17.325,-8.255) 111(17.325,-7.62) 112(17.325,-6.985) 113(17.325,-6.35) 114(17.325,-5.715) 115(17.325,-5.08) 116(17.325,-4.445) 117(17.325,-3.81) 118(17.325,-3.175) 119(17.325,-2.54) 120(17.325,-1.905) 121(17.325,-1.27) 122(17.325,-0.635) 123(17.325,0) 124(17.325,0.635) 125(17.325,1.27) 126(17.325,1.905) 127(17.325,2.54) 128(17.325,3.175) 129(17.325,3.81) 130(17.325,4.445) 131(17.325,5.08) 132(17.325,5.715) 133(17.325,6.35) 134(17.325,6.985) 135(17.325,7.62) 136(17.325,8.255) 137(17.325,8.89) 138(17.325,9.525) 139(17.325,10.16) 140(17.325,10.795) 141(17.325,11.43) 142(17.325,12.065) 143(17.325,12.7) 144(17.325,13.335) 145(17.325,13.97) 146(17.325,14.605) 147(17.325,15.24)
  oval 0.35x1.95 smd: 50(-15.24,-17.325) 51(-14.605,-17.325) 52(-13.97,-17.325) 53(-13.335,-17.325) 54(-12.7,-17.325) 55(-12.065,-17.325) 56(-11.43,-17.325) 57(-10.795,-17.325) 58(-10.16,-17.325) 59(-9.525,-17.325) 60(-8.89,-17.325) 61(-8.255,-17.325) 62(-7.62,-17.325) 63(-6.985,-17.325) 64(-6.35,-17.325) 65(-5.715,-17.325) 66(-5.08,-17.325) 67(-4.445,-17.325) 68(-3.81,-17.325) 69(-3.175,-17.325) 70(-2.54,-17.325) 71(-1.905,-17.325) 72(-1.27,-17.325) 73(-0.635,-17.325) 74(0,-17.325) 75(0.635,-17.325) 76(1.27,-17.325) 77(1.905,-17.325) 78(2.54,-17.325) 79(3.175,-17.325) 80(3.81,-17.325) 81(4.445,-17.325) 82(5.08,-17.325) 83(5.715,-17.325) 84(6.35,-17.325) 85(6.985,-17.325) 86(7.62,-17.325) 87(8.255,-17.325) 88(8.89,-17.325) 89(9.525,-17.325) 90(10.16,-17.325) 91(10.795,-17.325) 92(11.43,-17.325) 93(12.065,-17.325) 94(12.7,-17.325) 95(13.335,-17.325) 96(13.97,-17.325) 97(14.605,-17.325) 98(15.24,-17.325) 148(15.24,17.325) 149(14.605,17.325) 150(13.97,17.325) 151(13.335,17.325) 152(12.7,17.325) 153(12.065,17.325) 154(11.43,17.325) 155(10.795,17.325) 156(10.16,17.325) 157(9.525,17.325) 158(8.89,17.325) 159(8.255,17.325) 160(7.62,17.325) 161(6.985,17.325) 162(6.35,17.325) 163(5.715,17.325) 164(5.08,17.325) 165(4.445,17.325) 166(3.81,17.325) 167(3.175,17.325) 168(2.54,17.325) 169(1.905,17.325) 170(1.27,17.325) 171(0.635,17.325) 172(0,17.325) 173(-0.635,17.325) 174(-1.27,17.325) 175(-1.905,17.325) 176(-2.54,17.325) 177(-3.175,17.325) 178(-3.81,17.325) 179(-4.445,17.325) 180(-5.08,17.325) 181(-5.715,17.325) 182(-6.35,17.325) 183(-6.985,17.325) 184(-7.62,17.325) 185(-8.255,17.325) 186(-8.89,17.325) 187(-9.525,17.325) 188(-10.16,17.325) 189(-10.795,17.325) 190(-11.43,17.325) 191(-12.065,17.325) 192(-12.7,17.325) 193(-13.335,17.325) 194(-13.97,17.325) 195(-14.605,17.325) 196(-15.24,17.325)
Top Overlay:
  circle w0.25: c-17.325,15.965 r0.125
  lines w0.2: -15.95,14.74 -14.45,14.74 -14.45,15.24 -15.95,15.24 ; -15.95,15.24 -15.24,15.95 15.24,15.95 15.95,15.24 15.95,-15.24 15.24,-15.95 -15.24,-15.95 -15.95,-15.24 -15.95,15.24
Mechanical 13:
  lines w0.1: -17.025,-17.025 17.025,-17.025 17.025,17.025 -17.025,17.025 -17.025,-17.025
Mechanical 15:
  lines w0.1: -0.5,0 0.5,0 ; 0,-0.5 0,0.5 ; -18.4,-18.4 18.4,-18.4 18.4,18.4 -18.4,18.4 -18.4,-18.4
3D body: height 2.7, standoff 0, extent -17.025,-17.025 17.025,17.025

## CQFP63P4412X4412-228L [mm] "228-Pin Ceramic Brazed Quad Flat Pack (CB228)"
height 3.4
pads (228):
  oval 1.95x0.4 smd: 1(-21.525,17.78) 2(-21.525,17.145) 3(-21.525,16.51) 4(-21.525,15.875) 5(-21.525,15.24) 6(-21.525,14.605) 7(-21.525,13.97) 8(-21.525,13.335) 9(-21.525,12.7) 10(-21.525,12.065) 11(-21.525,11.43) 12(-21.525,10.795) 13(-21.525,10.16) 14(-21.525,9.525) 15(-21.525,8.89) 16(-21.525,8.255) 17(-21.525,7.62) 18(-21.525,6.985) 19(-21.525,6.35) 20(-21.525,5.715) 21(-21.525,5.08) 22(-21.525,4.445) 23(-21.525,3.81) 24(-21.525,3.175) 25(-21.525,2.54) 26(-21.525,1.905) 27(-21.525,1.27) 28(-21.525,0.635) 29(-21.525,0) 30(-21.525,-0.635) 31(-21.525,-1.27) 32(-21.525,-1.905) 33(-21.525,-2.54) 34(-21.525,-3.175) 35(-21.525,-3.81) 36(-21.525,-4.445) 37(-21.525,-5.08) 38(-21.525,-5.715) 39(-21.525,-6.35) 40(-21.525,-6.985) 41(-21.525,-7.62) 42(-21.525,-8.255) 43(-21.525,-8.89) 44(-21.525,-9.525) 45(-21.525,-10.16) 46(-21.525,-10.795) 47(-21.525,-11.43) 48(-21.525,-12.065) 49(-21.525,-12.7) 50(-21.525,-13.335) 51(-21.525,-13.97) 52(-21.525,-14.605) 53(-21.525,-15.24) 54(-21.525,-15.875) 55(-21.525,-16.51) 56(-21.525,-17.145) 57(-21.525,-17.78) 115(21.525,-17.78) 116(21.525,-17.145) 117(21.525,-16.51) 118(21.525,-15.875) 119(21.525,-15.24) 120(21.525,-14.605) 121(21.525,-13.97) 122(21.525,-13.335) 123(21.525,-12.7) 124(21.525,-12.065) 125(21.525,-11.43) 126(21.525,-10.795) 127(21.525,-10.16) 128(21.525,-9.525) 129(21.525,-8.89) 130(21.525,-8.255) 131(21.525,-7.62) 132(21.525,-6.985) 133(21.525,-6.35) 134(21.525,-5.715) 135(21.525,-5.08) 136(21.525,-4.445) 137(21.525,-3.81) 138(21.525,-3.175) 139(21.525,-2.54) 140(21.525,-1.905) 141(21.525,-1.27) 142(21.525,-0.635) 143(21.525,0) 144(21.525,0.635) 145(21.525,1.27) 146(21.525,1.905) 147(21.525,2.54) 148(21.525,3.175) 149(21.525,3.81) 150(21.525,4.445) 151(21.525,5.08) 152(21.525,5.715) 153(21.525,6.35) 154(21.525,6.985) 155(21.525,7.62) 156(21.525,8.255) 157(21.525,8.89) 158(21.525,9.525) 159(21.525,10.16) 160(21.525,10.795) 161(21.525,11.43) 162(21.525,12.065) 163(21.525,12.7) 164(21.525,13.335) 165(21.525,13.97) 166(21.525,14.605) 167(21.525,15.24) 168(21.525,15.875) 169(21.525,16.51) 170(21.525,17.145) 171(21.525,17.78)
  oval 0.4x1.95 smd: 58(-17.78,-21.525) 59(-17.145,-21.525) 60(-16.51,-21.525) 61(-15.875,-21.525) 62(-15.24,-21.525) 63(-14.605,-21.525) 64(-13.97,-21.525) 65(-13.335,-21.525) 66(-12.7,-21.525) 67(-12.065,-21.525) 68(-11.43,-21.525) 69(-10.795,-21.525) 70(-10.16,-21.525) 71(-9.525,-21.525) 72(-8.89,-21.525) 73(-8.255,-21.525) 74(-7.62,-21.525) 75(-6.985,-21.525) 76(-6.35,-21.525) 77(-5.715,-21.525) 78(-5.08,-21.525) 79(-4.445,-21.525) 80(-3.81,-21.525) 81(-3.175,-21.525) 82(-2.54,-21.525) 83(-1.905,-21.525) 84(-1.27,-21.525) 85(-0.635,-21.525) 86(0,-21.525) 87(0.635,-21.525) 88(1.27,-21.525) 89(1.905,-21.525) 90(2.54,-21.525) 91(3.175,-21.525) 92(3.81,-21.525) 93(4.445,-21.525) 94(5.08,-21.525) 95(5.715,-21.525) 96(6.35,-21.525) 97(6.985,-21.525) 98(7.62,-21.525) 99(8.255,-21.525) 100(8.89,-21.525) 101(9.525,-21.525) 102(10.16,-21.525) 103(10.795,-21.525) 104(11.43,-21.525) 105(12.065,-21.525) 106(12.7,-21.525) 107(13.335,-21.525) 108(13.97,-21.525) 109(14.605,-21.525) 110(15.24,-21.525) 111(15.875,-21.525) 112(16.51,-21.525) 113(17.145,-21.525) 114(17.78,-21.525) 172(17.78,21.525) 173(17.145,21.525) 174(16.51,21.525) 175(15.875,21.525) 176(15.24,21.525) 177(14.605,21.525) 178(13.97,21.525) 179(13.335,21.525) 180(12.7,21.525) 181(12.065,21.525) 182(11.43,21.525) 183(10.795,21.525) 184(10.16,21.525) 185(9.525,21.525) 186(8.89,21.525) 187(8.255,21.525) 188(7.62,21.525) 189(6.985,21.525) 190(6.35,21.525) 191(5.715,21.525) 192(5.08,21.525) 193(4.445,21.525) 194(3.81,21.525) 195(3.175,21.525) 196(2.54,21.525) 197(1.905,21.525) 198(1.27,21.525) 199(0.635,21.525) 200(0,21.525) 201(-0.635,21.525) 202(-1.27,21.525) 203(-1.905,21.525) 204(-2.54,21.525) 205(-3.175,21.525) 206(-3.81,21.525) 207(-4.445,21.525) 208(-5.08,21.525) 209(-5.715,21.525) 210(-6.35,21.525) 211(-6.985,21.525) 212(-7.62,21.525) 213(-8.255,21.525) 214(-8.89,21.525) 215(-9.525,21.525) 216(-10.16,21.525) 217(-10.795,21.525) 218(-11.43,21.525) 219(-12.065,21.525) 220(-12.7,21.525) 221(-13.335,21.525) 222(-13.97,21.525) 223(-14.605,21.525) 224(-15.24,21.525) 225(-15.875,21.525) 226(-16.51,21.525) 227(-17.145,21.525) 228(-17.78,21.525)
Top Overlay:
  circle w0.25: c-21.525,18.53 r0.125
  lines w0.2: -20.15,17.28 -18.65,17.28 -18.65,17.78 -20.15,17.78 ; -20.15,17.78 -17.78,20.15 17.78,20.15 20.15,17.78 20.15,-17.78 17.78,-20.15 -17.78,-20.15 -20.15,-17.78 -20.15,17.78
Mechanical 13:
  lines w0.1: -19.71,-19.71 19.71,-19.71 19.71,19.71 -19.71,19.71 -19.71,-19.71
Mechanical 15:
  lines w0.1: -0.5,0 0.5,0 ; 0,-0.5 0,0.5 ; -22.6,-22.6 22.6,-22.6 22.6,22.6 -22.6,22.6 -22.6,-22.6
3D body: height 3.4, standoff 0, extent -19.71,-19.71 19.71,19.71

## CQFP63P5677X5677-308L [mm] "CQFP, 308-Leads, Body 52x52mm; Pitch 0.635mm, Gullwing Leadform, IPC High Density"
height 2.6
pads (308):
  oval 1.95x0.35 smd: 1(-27.775,24.13) 2(-27.775,23.495) 3(-27.775,22.86) 4(-27.775,22.225) 5(-27.775,21.59) 6(-27.775,20.955) 7(-27.775,20.32) 8(-27.775,19.685) 9(-27.775,19.05) 10(-27.775,18.415) 11(-27.775,17.78) 12(-27.775,17.145) 13(-27.775,16.51) 14(-27.775,15.875) 15(-27.775,15.24) 16(-27.775,14.605) 17(-27.775,13.97) 18(-27.775,13.335) 19(-27.775,12.7) 20(-27.775,12.065) 21(-27.775,11.43) 22(-27.775,10.795) 23(-27.775,10.16) 24(-27.775,9.525) 25(-27.775,8.89) 26(-27.775,8.255) 27(-27.775,7.62) 28(-27.775,6.985) 29(-27.775,6.35) 30(-27.775,5.715) 31(-27.775,5.08) 32(-27.775,4.445) 33(-27.775,3.81) 34(-27.775,3.175) 35(-27.775,2.54) 36(-27.775,1.905) 37(-27.775,1.27) 38(-27.775,0.635) 39(-27.775,0) 40(-27.775,-0.635) 41(-27.775,-1.27) 42(-27.775,-1.905) 43(-27.775,-2.54) 44(-27.775,-3.175) 45(-27.775,-3.81) 46(-27.775,-4.445) 47(-27.775,-5.08) 48(-27.775,-5.715) 49(-27.775,-6.35) 50(-27.775,-6.985) 51(-27.775,-7.62) 52(-27.775,-8.255) 53(-27.775,-8.89) 54(-27.775,-9.525) 55(-27.775,-10.16) 56(-27.775,-10.795) 57(-27.775,-11.43) 58(-27.775,-12.065) 59(-27.775,-12.7) 60(-27.775,-13.335) 61(-27.775,-13.97) 62(-27.775,-14.605) 63(-27.775,-15.24) 64(-27.775,-15.875) 65(-27.775,-16.51) 66(-27.775,-17.145) 67(-27.775,-17.78) 68(-27.775,-18.415) 69(-27.775,-19.05) 70(-27.775,-19.685) 71(-27.775,-20.32) 72(-27.775,-20.955) 73(-27.775,-21.59) 74(-27.775,-22.225) 75(-27.775,-22.86) 76(-27.775,-23.495) 77(-27.775,-24.13) 155(27.775,-24.13) 156(27.775,-23.495) 157(27.775,-22.86) 158(27.775,-22.225) 159(27.775,-21.59) 160(27.775,-20.955) 161(27.775,-20.32) 162(27.775,-19.685) 163(27.775,-19.05) 164(27.775,-18.415) 165(27.775,-17.78) 166(27.775,-17.145) 167(27.775,-16.51) 168(27.775,-15.875) 169(27.775,-15.24) 170(27.775,-14.605) 171(27.775,-13.97) 172(27.775,-13.335) 173(27.775,-12.7) 174(27.775,-12.065) 175(27.775,-11.43) 176(27.775,-10.795) 177(27.775,-10.16) 178(27.775,-9.525) 179(27.775,-8.89) 180(27.775,-8.255) 181(27.775,-7.62) 182(27.775,-6.985) 183(27.775,-6.35) 184(27.775,-5.715) 185(27.775,-5.08) 186(27.775,-4.445) 187(27.775,-3.81) 188(27.775,-3.175) 189(27.775,-2.54) 190(27.775,-1.905) 191(27.775,-1.27) 192(27.775,-0.635) 193(27.775,0) 194(27.775,0.635) 195(27.775,1.27) 196(27.775,1.905) 197(27.775,2.54) 198(27.775,3.175) 199(27.775,3.81) 200(27.775,4.445) 201(27.775,5.08) 202(27.775,5.715) 203(27.775,6.35) 204(27.775,6.985) 205(27.775,7.62) 206(27.775,8.255) 207(27.775,8.89) 208(27.775,9.525) 209(27.775,10.16) 210(27.775,10.795) 211(27.775,11.43) 212(27.775,12.065) 213(27.775,12.7) 214(27.775,13.335) 215(27.775,13.97) 216(27.775,14.605) 217(27.775,15.24) 218(27.775,15.875) 219(27.775,16.51) 220(27.775,17.145) 221(27.775,17.78) 222(27.775,18.415) 223(27.775,19.05) 224(27.775,19.685) 225(27.775,20.32) 226(27.775,20.955) 227(27.775,21.59) 228(27.775,22.225) 229(27.775,22.86) 230(27.775,23.495) 231(27.775,24.13)
  oval 0.35x1.95 smd: 78(-24.13,-27.775) 79(-23.495,-27.775) 80(-22.86,-27.775) 81(-22.225,-27.775) 82(-21.59,-27.775) 83(-20.955,-27.775) 84(-20.32,-27.775) 85(-19.685,-27.775) 86(-19.05,-27.775) 87(-18.415,-27.775) 88(-17.78,-27.775) 89(-17.145,-27.775) 90(-16.51,-27.775) 91(-15.875,-27.775) 92(-15.24,-27.775) 93(-14.605,-27.775) 94(-13.97,-27.775) 95(-13.335,-27.775) 96(-12.7,-27.775) 97(-12.065,-27.775) 98(-11.43,-27.775) 99(-10.795,-27.775) 100(-10.16,-27.775) 101(-9.525,-27.775) 102(-8.89,-27.775) 103(-8.255,-27.775) 104(-7.62,-27.775) 105(-6.985,-27.775) 106(-6.35,-27.775) 107(-5.715,-27.775) 108(-5.08,-27.775) 109(-4.445,-27.775) 110(-3.81,-27.775) 111(-3.175,-27.775) 112(-2.54,-27.775) 113(-1.905,-27.775) 114(-1.27,-27.775) 115(-0.635,-27.775) 116(0,-27.775) 117(0.635,-27.775) 118(1.27,-27.775) 119(1.905,-27.775) 120(2.54,-27.775) 121(3.175,-27.775) 122(3.81,-27.775) 123(4.445,-27.775) 124(5.08,-27.775) 125(5.715,-27.775) 126(6.35,-27.775) 127(6.985,-27.775) 128(7.62,-27.775) 129(8.255,-27.775) 130(8.89,-27.775) 131(9.525,-27.775) 132(10.16,-27.775) 133(10.795,-27.775) 134(11.43,-27.775) 135(12.065,-27.775) 136(12.7,-27.775) 137(13.335,-27.775) 138(13.97,-27.775) 139(14.605,-27.775) 140(15.24,-27.775) 141(15.875,-27.775) 142(16.51,-27.775) 143(17.145,-27.775) 144(17.78,-27.775) 145(18.415,-27.775) 146(19.05,-27.775) 147(19.685,-27.775) 148(20.32,-27.775) 149(20.955,-27.775) 150(21.59,-27.775) 151(22.225,-27.775) 152(22.86,-27.775) 153(23.495,-27.775) 154(24.13,-27.775) 232(24.13,27.775) 233(23.495,27.775) 234(22.86,27.775) 235(22.225,27.775) 236(21.59,27.775) 237(20.955,27.775) 238(20.32,27.775) 239(19.685,27.775) 240(19.05,27.775) 241(18.415,27.775) 242(17.78,27.775) 243(17.145,27.775) 244(16.51,27.775) 245(15.875,27.775) 246(15.24,27.775) 247(14.605,27.775) 248(13.97,27.775) 249(13.335,27.775) 250(12.7,27.775) 251(12.065,27.775) 252(11.43,27.775) 253(10.795,27.775) 254(10.16,27.775) 255(9.525,27.775) 256(8.89,27.775) 257(8.255,27.775) 258(7.62,27.775) 259(6.985,27.775) 260(6.35,27.775) 261(5.715,27.775) 262(5.08,27.775) 263(4.445,27.775) 264(3.81,27.775) 265(3.175,27.775) 266(2.54,27.775) 267(1.905,27.775) 268(1.27,27.775) 269(0.635,27.775) 270(0,27.775) 271(-0.635,27.775) 272(-1.27,27.775) 273(-1.905,27.775) 274(-2.54,27.775) 275(-3.175,27.775) 276(-3.81,27.775) 277(-4.445,27.775) 278(-5.08,27.775) 279(-5.715,27.775) 280(-6.35,27.775) 281(-6.985,27.775) 282(-7.62,27.775) 283(-8.255,27.775) 284(-8.89,27.775) 285(-9.525,27.775) 286(-10.16,27.775) 287(-10.795,27.775) 288(-11.43,27.775) 289(-12.065,27.775) 290(-12.7,27.775) 291(-13.335,27.775) 292(-13.97,27.775) 293(-14.605,27.775) 294(-15.24,27.775) 295(-15.875,27.775) 296(-16.51,27.775) 297(-17.145,27.775) 298(-17.78,27.775) 299(-18.415,27.775) 300(-19.05,27.775) 301(-19.685,27.775) 302(-20.32,27.775) 303(-20.955,27.775) 304(-21.59,27.775) 305(-22.225,27.775) 306(-22.86,27.775) 307(-23.495,27.775) 308(-24.13,27.775)
Top Overlay:
  circle w0.25: c-27.775,24.855 r0.125
  lines w0.2: -26.4,23.63 -24.9,23.63 -24.9,24.13 -26.4,24.13 ; -26.4,24.13 -24.13,26.4 24.13,26.4 26.4,24.13 26.4,-24.13 24.13,-26.4 -24.13,-26.4 -26.4,-24.13 -26.4,24.13
Mechanical 13:
  lines w0.1: -26.035,-26.035 26.035,-26.035 26.035,26.035 -26.035,26.035 -26.035,-26.035
Mechanical 15:
  lines w0.1: -0.5,0 0.5,0 ; 0,-0.5 0,0.5 ; -28.85,-28.85 28.85,-28.85 28.85,28.85 -28.85,28.85 -28.85,-28.85
3D body: height 2.6, standoff 0, extent -26.035,-26.035 26.035,26.035

## CQFP63P7201X7201-408L [mm] "408-Pin Ceramic Quad Flat Pack 0.635 mm Pitch"
height 2.5
pads (408):
  oval 2x0.4 smd: 1(-35.5,32.067) 2(-35.5,31.432) 3(-35.5,30.797) 4(-35.5,30.162) 5(-35.5,29.527) 6(-35.5,28.892) 7(-35.5,28.258) 8(-35.5,27.622) 9(-35.5,26.987) 10(-35.5,26.352) 11(-35.5,25.717) 12(-35.5,25.082) 13(-35.5,24.447) 14(-35.5,23.812) 15(-35.5,23.177) 16(-35.5,22.543) 17(-35.5,21.907) 18(-35.5,21.273) 19(-35.5,20.637) 20(-35.5,20.002) 21(-35.5,19.367) 22(-35.5,18.732) 23(-35.5,18.098) 24(-35.5,17.462) 25(-35.5,16.828) 26(-35.5,16.192) 27(-35.5,15.557) 28(-35.5,14.922) 29(-35.5,14.287) 30(-35.5,13.652) 31(-35.5,13.018) 32(-35.5,12.383) 33(-35.5,11.747) 34(-35.5,11.112) 35(-35.5,10.477) 36(-35.5,9.842) 37(-35.5,9.207) 38(-35.5,8.572) 39(-35.5,7.938) 40(-35.5,7.302) 41(-35.5,6.667) 42(-35.5,6.032) 43(-35.5,5.397) 44(-35.5,4.763) 45(-35.5,4.127) 46(-35.5,3.492) 47(-35.5,2.857) 48(-35.5,2.222) 49(-35.5,1.587) 50(-35.5,0.953) 51(-35.5,0.318) 52(-35.5,-0.318) 53(-35.5,-0.953) 54(-35.5,-1.587) 55(-35.5,-2.222) 56(-35.5,-2.857) 57(-35.5,-3.492) 58(-35.5,-4.127) 59(-35.5,-4.763) 60(-35.5,-5.397) 61(-35.5,-6.032) 62(-35.5,-6.667) 63(-35.5,-7.302) 64(-35.5,-7.938) 65(-35.5,-8.572) 66(-35.5,-9.207) 67(-35.5,-9.842) 68(-35.5,-10.477) 69(-35.5,-11.112) 70(-35.5,-11.747) 71(-35.5,-12.383) 72(-35.5,-13.018) 73(-35.5,-13.652) 74(-35.5,-14.287) 75(-35.5,-14.922) 76(-35.5,-15.557) 77(-35.5,-16.192) 78(-35.5,-16.828) 79(-35.5,-17.462) 80(-35.5,-18.098) 81(-35.5,-18.732) 82(-35.5,-19.367) 83(-35.5,-20.002) 84(-35.5,-20.637) 85(-35.5,-21.273) 86(-35.5,-21.907) 87(-35.5,-22.543) 88(-35.5,-23.177) 89(-35.5,-23.812) 90(-35.5,-24.447) 91(-35.5,-25.082) 92(-35.5,-25.717) 93(-35.5,-26.352) 94(-35.5,-26.987) 95(-35.5,-27.622) 96(-35.5,-28.258) 97(-35.5,-28.892) 98(-35.5,-29.527) 99(-35.5,-30.162) 100(-35.5,-30.797) 101(-35.5,-31.432) 102(-35.5,-32.067) 205(35.5,-32.067) 206(35.5,-31.432) 207(35.5,-30.797) 208(35.5,-30.162) 209(35.5,-29.527) 210(35.5,-28.892) 211(35.5,-28.258) 212(35.5,-27.622) 213(35.5,-26.987) 214(35.5,-26.352) 215(35.5,-25.717) 216(35.5,-25.082) 217(35.5,-24.447) 218(35.5,-23.812) 219(35.5,-23.177) 220(35.5,-22.543) 221(35.5,-21.907) 222(35.5,-21.273) 223(35.5,-20.637) 224(35.5,-20.002) 225(35.5,-19.367) 226(35.5,-18.732) 227(35.5,-18.098) 228(35.5,-17.462) 229(35.5,-16.828) 230(35.5,-16.192) 231(35.5,-15.557) 232(35.5,-14.922) 233(35.5,-14.287) 234(35.5,-13.652) 235(35.5,-13.018) 236(35.5,-12.383) 237(35.5,-11.747) 238(35.5,-11.112) 239(35.5,-10.477) 240(35.5,-9.842) 241(35.5,-9.207) 242(35.5,-8.572) 243(35.5,-7.938) 244(35.5,-7.302) 245(35.5,-6.667) 246(35.5,-6.032) 247(35.5,-5.397) 248(35.5,-4.763) 249(35.5,-4.127) 250(35.5,-3.492) 251(35.5,-2.857) 252(35.5,-2.222) 253(35.5,-1.587) 254(35.5,-0.953) 255(35.5,-0.318) 256(35.5,0.318) 257(35.5,0.953) 258(35.5,1.587) 259(35.5,2.222) 260(35.5,2.857) 261(35.5,3.492) 262(35.5,4.127) 263(35.5,4.763) 264(35.5,5.397) 265(35.5,6.032) 266(35.5,6.667) 267(35.5,7.302) 268(35.5,7.938) 269(35.5,8.572) 270(35.5,9.207) 271(35.5,9.842) 272(35.5,10.477) 273(35.5,11.112) 274(35.5,11.747) 275(35.5,12.383) 276(35.5,13.018) 277(35.5,13.652) 278(35.5,14.287) 279(35.5,14.922) 280(35.5,15.557) 281(35.5,16.192) 282(35.5,16.828) 283(35.5,17.462) 284(35.5,18.098) 285(35.5,18.732) 286(35.5,19.367) 287(35.5,20.002) 288(35.5,20.637) 289(35.5,21.273) 290(35.5,21.907) 291(35.5,22.543) 292(35.5,23.177) 293(35.5,23.812) 294(35.5,24.447) 295(35.5,25.082) 296(35.5,25.717) 297(35.5,26.352) 298(35.5,26.987) 299(35.5,27.622) 300(35.5,28.258) 301(35.5,28.892) 302(35.5,29.527) 303(35.5,30.162) 304(35.5,30.797) 305(35.5,31.432) 306(35.5,32.067)
  oval 0.4x2 smd: 103(-32.067,-35.5) 104(-31.432,-35.5) 105(-30.797,-35.5) 106(-30.162,-35.5) 107(-29.527,-35.5) 108(-28.892,-35.5) 109(-28.258,-35.5) 110(-27.622,-35.5) 111(-26.987,-35.5) 112(-26.352,-35.5) 113(-25.717,-35.5) 114(-25.082,-35.5) 115(-24.447,-35.5) 116(-23.812,-35.5) 117(-23.177,-35.5) 118(-22.543,-35.5) 119(-21.907,-35.5) 120(-21.273,-35.5) 121(-20.637,-35.5) 122(-20.002,-35.5) 123(-19.367,-35.5) 124(-18.732,-35.5) 125(-18.098,-35.5) 126(-17.462,-35.5) 127(-16.828,-35.5) 128(-16.192,-35.5) 129(-15.557,-35.5) 130(-14.922,-35.5) 131(-14.287,-35.5) 132(-13.652,-35.5) 133(-13.018,-35.5) 134(-12.383,-35.5) 135(-11.747,-35.5) 136(-11.112,-35.5) 137(-10.477,-35.5) 138(-9.842,-35.5) 139(-9.207,-35.5) 140(-8.572,-35.5) 141(-7.938,-35.5) 142(-7.302,-35.5) 143(-6.667,-35.5) 144(-6.032,-35.5) 145(-5.397,-35.5) 146(-4.763,-35.5) 147(-4.127,-35.5) 148(-3.492,-35.5) 149(-2.857,-35.5) 150(-2.222,-35.5) 151(-1.587,-35.5) 152(-0.953,-35.5) 153(-0.318,-35.5) 154(0.318,-35.5) 155(0.953,-35.5) 156(1.587,-35.5) 157(2.222,-35.5) 158(2.857,-35.5) 159(3.492,-35.5) 160(4.127,-35.5) 161(4.763,-35.5) 162(5.397,-35.5) 163(6.032,-35.5) 164(6.667,-35.5) 165(7.302,-35.5) 166(7.938,-35.5) 167(8.572,-35.5) 168(9.207,-35.5) 169(9.842,-35.5) 170(10.477,-35.5) 171(11.112,-35.5) 172(11.747,-35.5) 173(12.383,-35.5) 174(13.018,-35.5) 175(13.652,-35.5) 176(14.287,-35.5) 177(14.922,-35.5) 178(15.557,-35.5) 179(16.192,-35.5) 180(16.828,-35.5) 181(17.462,-35.5) 182(18.098,-35.5) 183(18.732,-35.5) 184(19.367,-35.5) 185(20.002,-35.5) 186(20.637,-35.5) 187(21.273,-35.5) 188(21.907,-35.5) 189(22.543,-35.5) 190(23.177,-35.5) 191(23.812,-35.5) 192(24.447,-35.5) 193(25.082,-35.5) 194(25.717,-35.5) 195(26.352,-35.5) 196(26.987,-35.5) 197(27.622,-35.5) 198(28.258,-35.5) 199(28.892,-35.5) 200(29.527,-35.5) 201(30.162,-35.5) 202(30.797,-35.5) 203(31.432,-35.5) 204(32.067,-35.5) 307(32.067,35.5) 308(31.432,35.5) 309(30.797,35.5) 310(30.162,35.5) 311(29.527,35.5) 312(28.892,35.5) 313(28.258,35.5) 314(27.622,35.5) 315(26.987,35.5) 316(26.352,35.5) 317(25.717,35.5) 318(25.082,35.5) 319(24.447,35.5) 320(23.812,35.5) 321(23.177,35.5) 322(22.543,35.5) 323(21.907,35.5) 324(21.273,35.5) 325(20.637,35.5) 326(20.002,35.5) 327(19.367,35.5) 328(18.732,35.5) 329(18.098,35.5) 330(17.462,35.5) 331(16.828,35.5) 332(16.192,35.5) 333(15.557,35.5) 334(14.922,35.5) 335(14.287,35.5) 336(13.652,35.5) 337(13.018,35.5) 338(12.383,35.5) 339(11.747,35.5) 340(11.112,35.5) 341(10.477,35.5) 342(9.842,35.5) 343(9.207,35.5) 344(8.572,35.5) 345(7.938,35.5) 346(7.302,35.5) 347(6.667,35.5) 348(6.032,35.5) 349(5.397,35.5) 350(4.763,35.5) 351(4.127,35.5) 352(3.492,35.5) 353(2.857,35.5) 354(2.222,35.5) 355(1.587,35.5) 356(0.953,35.5) 357(0.318,35.5) 358(-0.318,35.5) 359(-0.953,35.5) 360(-1.587,35.5) 361(-2.222,35.5) 362(-2.857,35.5) 363(-3.492,35.5) 364(-4.127,35.5) 365(-4.763,35.5) 366(-5.397,35.5) 367(-6.032,35.5) 368(-6.667,35.5) 369(-7.302,35.5) 370(-7.938,35.5) 371(-8.572,35.5) 372(-9.207,35.5) 373(-9.842,35.5) 374(-10.477,35.5) 375(-11.112,35.5) 376(-11.747,35.5) 377(-12.383,35.5) 378(-13.018,35.5) 379(-13.652,35.5) 380(-14.287,35.5) 381(-14.922,35.5) 382(-15.557,35.5) 383(-16.192,35.5) 384(-16.828,35.5) 385(-17.462,35.5) 386(-18.098,35.5) 387(-18.732,35.5) 388(-19.367,35.5) 389(-20.002,35.5) 390(-20.637,35.5) 391(-21.273,35.5) 392(-21.907,35.5) 393(-22.543,35.5) 394(-23.177,35.5) 395(-23.812,35.5) 396(-24.447,35.5) 397(-25.082,35.5) 398(-25.717,35.5) 399(-26.352,35.5) 400(-26.987,35.5) 401(-27.622,35.5) 402(-28.258,35.5) 403(-28.892,35.5) 404(-29.527,35.5) 405(-30.162,35.5) 406(-30.797,35.5) 407(-31.432,35.5) 408(-32.067,35.5)
Top Overlay:
  circle w0.25: c-35.5,32.818 r0.125
  lines w0.2: -34.1,31.57 -32.6,31.57 -32.6,32.07 -34.1,32.07 ; -34.1,32.07 -34.1,-32.07 -32.07,-34.1 32.07,-34.1 34.1,-32.07 34.1,32.07 32.07,34.1 -32.07,34.1 -34.1,32.07
Mechanical 13:
  lines w0.1: -33.655,-33.655 -33.655,33.655 33.655,33.655 33.655,-33.655 -33.655,-33.655
Mechanical 15:
  lines w0.1: -0.5,0 0.5,0 ; 0,-0.5 0,0.5 ; -36.6,-36.6 -36.6,36.6 36.6,36.6 36.6,-36.6 -36.6,-36.6
3D body: height 2.5, standoff 0, extent -33.655,-33.655 33.655,33.655